# Altium footprint library DC2527A(A,B)-3.PcbLib: 19 footprints (part 2 of 2)
Each footprint in its own frame and in the unit in brackets; x right, y up, seen from the top. Pads: shape width x height; smd on the part's side, far side on the other; paste and mask are expansions set on the pad; w line width, h text height; cw(c..) or ccw(c..) is an arc to the next point about the centre after c.
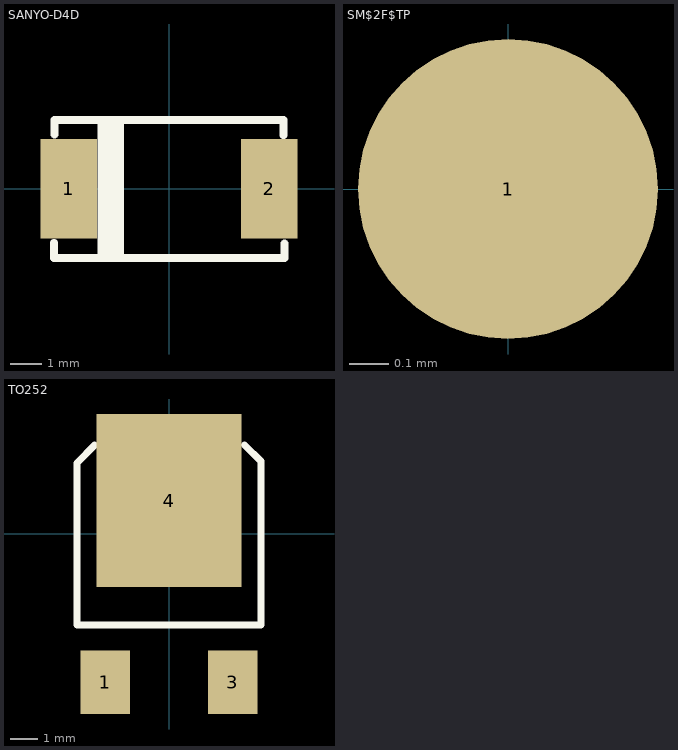
[diagram p1: the footprints below, top view; thin cyan lines are the x and y axes]

## SANYO-D4D [mm]
pads (2):
  rect 1.8x3.175 smd: 1(-3.2,0) 2(3.2,0)
Top Overlay:
  lines w0.254: -3.67,-1.73 -3.67,-2.22 3.68,-2.22 3.68,-1.75 ; -3.65,1.72 -3.65,2.19 3.66,2.19 3.66,1.7 ; -2.15,-2.22 -2.15,2.19 ; -2.01,-2.2 -2.01,2.18 ; -1.88,-2.2 -1.88,2.19 ; -1.71,-2.18 -1.71,2.18 ; -1.56,-2.18 -1.56,2.18

## SM$2F$TP [mil]
pads (1):
  round 30 smd: 1(0,0)

## TO252 [mil]
pads (4):
  rect 70x90 smd: 1(-90,-210) 3(90,-210)
  rect 5x5 smd: 2(0,-55)
  rect 205x245 smd: 4(0,47.24)
Top Overlay:
  lines w10: -105.51,125.51 -130.5,100.52 -130.5,-129 130,-129 130,103 107,126